# Altium footprint library DWM 1001 DEV.PcbLib: 1 footprints
Each footprint in its own frame and in the unit in brackets; x right, y up, seen from the top. Pads: shape width x height; smd on the part's side, far side on the other; paste and mask are expansions set on the pad; w line width, h text height; cw(c..) or ccw(c..) is an arc to the next point about the centre after c.
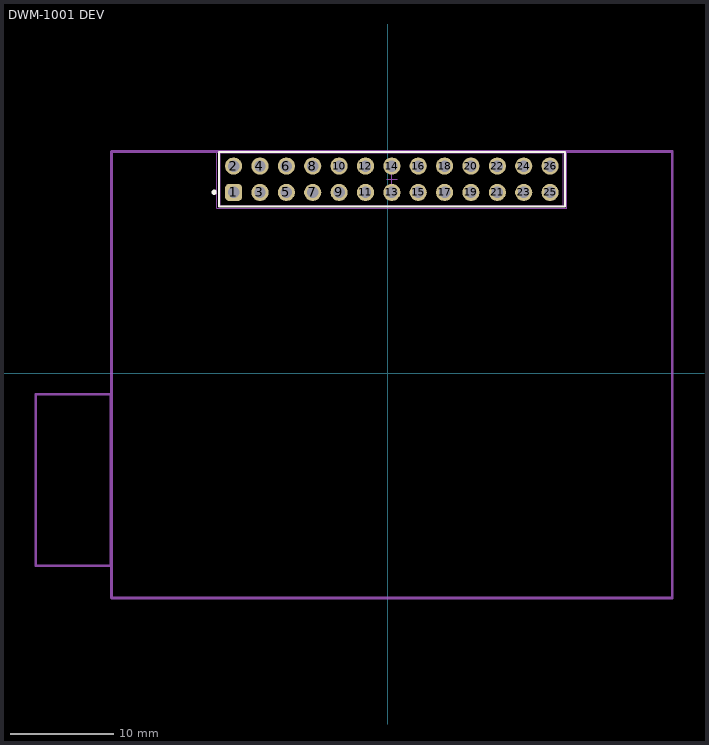
[diagram p0: the footprint, top view; thin cyan lines are the x and y axes]

## DWM-1001 DEV [mm] "Pin Header, pitch 2.54 mm, THT, Vertical, dual row, 26p"
height 8.54
pads (26):
  rrect50% 1.65x1.65 hole 1.1: 1(-14.859,17.399)
  round 1.65 hole 1.1: 2(-14.859,19.939) 3(-12.319,17.399) 4(-12.319,19.939) 5(-9.779,17.399) 6(-9.779,19.939) 7(-7.239,17.399) 8(-7.239,19.939) 9(-4.699,17.399) 10(-4.699,19.939) 11(-2.159,17.399) 12(-2.159,19.939) 13(0.381,17.399) 14(0.381,19.939) 15(2.921,17.399) 16(2.921,19.939) 17(5.461,17.399) 18(5.461,19.939) 19(8.001,17.399) 20(8.001,19.939) 21(10.541,17.399) 22(10.541,19.939) 23(13.081,17.399) 24(13.081,19.939) 25(15.621,17.399) 26(15.621,19.939)
Top Overlay:
  circle w0.25: c-16.739,17.419 r0.125
  lines w0.2: -16.279,16.054 17.041,16.054 17.041,21.284 -16.279,21.284 -16.279,16.054
Mechanical 1:
  lines w0.254: -33.909,-18.542 -26.67,-18.542 -26.67,-2.032 -33.909,-2.032 -33.909,-18.542 ; -26.619,-21.664 27.381,-21.664 27.381,21.336 -26.619,21.336 -26.619,-21.664
  text "DWM-1001 DEV" at -9.014,-1.016 h1.52
Top Designator:
  text ".Designator" at -6.736,14.74 h1.5
Top Component Outline:
  lines w0.1: -16.129,16.129 16.891,16.129 16.891,21.209 -16.129,21.209 -16.129,16.129
Top Courtyard:
  lines w0.05: -16.479,15.854 -16.479,21.484 17.241,21.484 17.241,15.854 -16.479,15.854
Top Component Center:
  lines w0.05: -0.119,18.669 0.881,18.669 ; 0.381,18.169 0.381,19.169
3D body "61302621121.stp": height 8.59, standoff -2.95, extent -16.129,16.129 16.891,21.209